# EAGLE library part FPC-39WAY (library pimoroni-fpc)
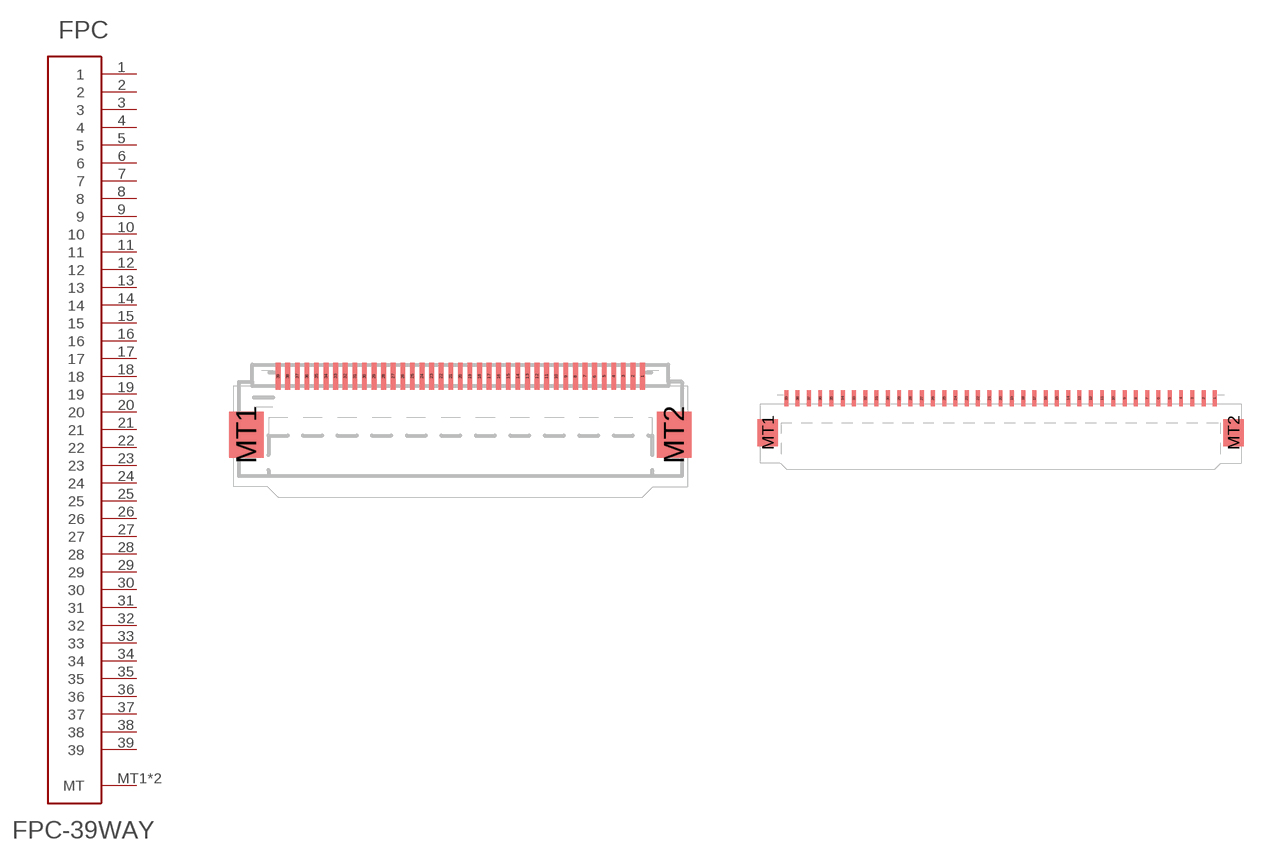
[diagram p34: symbol with the pads of FPC-0.5MM-39WAY; footprints FPC-0.5MM-39WAY, FPC-1.0MM-39WAY]

Designator prefix FPC

## FPC-39WAY0.5  [FPC-0.5MM-39WAY]
1  1
2  2
3  3
4  4
5  5
6  6
7  7
8  8
9  9
10  10
11  11
12  12
13  13
14  14
15  15
16  16
17  17
18  18
19  19
20  20
21  21
22  22
23  23
24  24
25  25
26  26
27  27
28  28
29  29
30  30
31  31
32  32
33  33
34  34
35  35
36  36
37  37
38  38
39  39
MT1  MT
MT2  MT

## FPC-39WAY1.0  [FPC-1.0MM-39WAY]
Pads as for FPC-0.5MM-39WAY

## Footprint FPC-0.5MM-39WAY (pad centres in mm)
smd 0.25 x 1.4: 1 9.5,0.7; 2 9,0.7; 3 8.5,0.7; 4 8,0.7; 5 7.5,0.7; 6 7,0.7; 7 6.5,0.7; 8 6,0.7; 9 5.5,0.7; 10 5,0.7; 11 4.5,0.7; 12 4,0.7; 13 3.5,0.7; 14 3,0.7; 15 2.5,0.7; 16 2,0.7; 17 1.5,0.7; 18 1,0.7; 19 0.5,0.7; 20 0,0.7; 21 -0.5,0.7; 22 -1,0.7; 23 -1.5,0.7; 24 -2,0.7; 25 -2.5,0.7; 26 -3,0.7; 27 -3.5,0.7; 28 -4,0.7; 29 -4.5,0.7; 30 -5,0.7; 31 -5.5,0.7; 32 -6,0.7; 33 -6.5,0.7; 34 -7,0.7; 35 -7.5,0.7; 36 -8,0.7; 37 -8.5,0.7; 38 -9,0.7; 39 -9.5,0.7
smd 1.8 x 2.4: MT1 -11.15,-2.35; MT2 11.15,-2.35

## Footprint FPC-1.0MM-39WAY (pad centres in mm)
smd 0.35 x 1.4: 1 19,0.7; 2 18,0.7; 3 17,0.7; 4 16,0.7; 5 15,0.7; 6 14,0.7; 7 13,0.7; 8 12,0.7; 9 11,0.7; 10 10,0.7; 11 9,0.7; 12 8,0.7; 13 7,0.7; 14 6,0.7; 15 5,0.7; 16 4,0.7; 17 3,0.7; 18 2,0.7; 19 1,0.7; 20 0,0.7; 21 -1,0.7; 22 -2,0.7; 23 -3,0.7; 24 -4,0.7; 25 -5,0.7; 26 -6,0.7; 27 -7,0.7; 28 -8,0.7; 29 -9,0.7; 30 -10,0.7; 31 -11,0.7; 32 -12,0.7; 33 -13,0.7; 34 -14,0.7; 35 -15,0.7; 36 -16,0.7; 37 -17,0.7; 38 -18,0.7; 39 -19,0.7
smd 1.8 x 2.4: MT1 -20.65,-2.35; MT2 20.65,-2.35